# EAGLE library part LEITUNGSSCHUTZSCHALTER_4-POL (library e-sicherungen)
Leitungsschutzschalter, 4-pol.
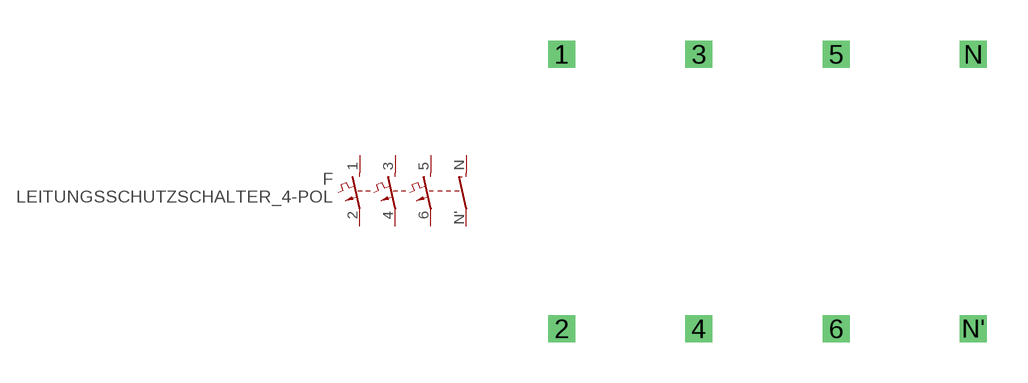
[diagram p6: symbol with the pads of LEITUNGSSCHUTZSCHALTER_4-POL; footprint LEITUNGSSCHUTZSCHALTER_4-POL]

Designator prefix F

## LEITUNGSSCHUTZSCHALTER_4-POL  [LEITUNGSSCHUTZSCHALTER_4-POL]
1  1  pas
2  2  pas
3  3  pas
4  4  pas
5  5  pas
6  6  pas
N  N  pas
N'  N  pas

## Footprint LEITUNGSSCHUTZSCHALTER_4-POL (pad centres in mm)
Dummy
drill 0.5 pad 1 square: 1 -5.08,-2.54; 2 -5.08,-12.7; 3 0,-2.54; 4 0,-12.7; 5 5.08,-2.54; 6 5.08,-12.7; N 10.16,-2.54; N' 10.16,-12.7